# EAGLE library part SAMTEC-HTST-110-04-X-D-RA (library X16_Backplane)
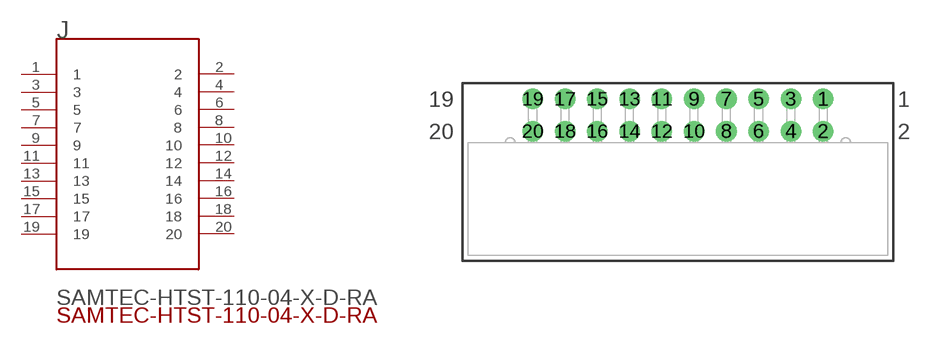
[diagram p6: symbol with the pads of SAMTEC-HTST-110-04-X-D-RA; footprint SAMTEC-HTST-110-04-X-D-RA]

Designator prefix J

## SAMTEC-HTST-110-04-X-D-RAJ  [SAMTEC-HTST-110-04-X-D-RA]
1  1  pas
2  2  pas
3  3  pas
4  4  pas
5  5  pas
6  6  pas
7  7  pas
8  8  pas
9  9  pas
10  10  pas
11  11  pas
12  12  pas
13  13  pas
14  14  pas
15  15  pas
16  16  pas
17  17  pas
18  18  pas
19  19  pas
20  20  pas

## Footprint SAMTEC-HTST-110-04-X-D-RA (pad centres in mm)
translated Allegro footprint
drill 1.02 pad 1.62: 1 11.43,7.874; 2 11.43,5.334; 3 8.89,7.874; 4 8.89,5.334; 5 6.35,7.874; 6 6.35,5.334; 7 3.81,7.874; 8 3.81,5.334; 9 1.27,7.874; 10 1.27,5.334; 11 -1.27,7.874; 12 -1.27,5.334; 13 -3.81,7.874; 14 -3.81,5.334; 15 -6.35,7.874; 16 -6.35,5.334; 17 -8.89,7.874; 18 -8.89,5.334; 19 -11.43,7.874; 20 -11.43,5.334